# EAGLE library part 2450LP14B100 (library johanson-tech)
2.45 GHz LOW PASS FILTER
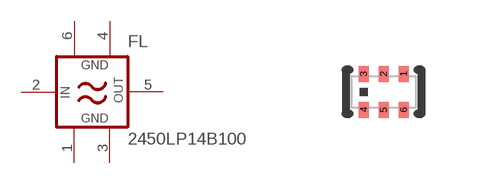
[diagram p2: symbol with the pads of 2450LP14B100; footprint 2450LP14B100]

Designator prefix FL

## 2450LP14B100  [2450LP14B100]
1  GND1  pas
2  IN  pas
3  GND2  pas
4  GND3  pas
5  OUT  pas
6  GND4  pas

## Footprint 2450LP14B100 (pad centres in mm)
2.4 GHz LOWPASS FILTER
smd 0.25 x 0.4: 1 0.5,0.45; 2 0,0.45; 3 -0.5,0.45; 4 -0.5,-0.45; 5 0,-0.45; 6 0.5,-0.45